# Altium integrated library 10u_tantalum_1206.IntLib: 1 symbol
Pins are listed as number, name and electrical type; pins without a type are passive.

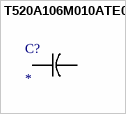
[diagram p0: symbol T520A106M010ATE0]

## T520A106M010ATE0
designator C?
Polymer SMD 10V 10uF 1206 20% ESR=80mOhms; Manufacturer_Part_Number: T520A106M010ATE080; Vendor: Kemet; Built_By: EMA_UL_Team; Type: DEV; C: Copyright (C) 2015 Accelerated Designs. All rights reserved; RefDes: RefDes; Value: Value; ComponentLink1Description: Mouser; ComponentLink1URL: https://www.mouser.com/ProductDetail/KEMET/T520A106M010ATE080?qs=sGAEpiMZZMtZ1n0r9vR22d2YkYo3dTA6%2fyEGTBuDbbI%3d
footprint CAPT3216N
pins: 1, 2